# Altium footprint library Component_3.PcbLib: 2 footprints
Each footprint in its own frame and in the unit in brackets; x right, y up, seen from the top. Pads: shape width x height; smd on the part's side, far side on the other; paste and mask are expansions set on the pad; w line width, h text height; cw(c..) or ccw(c..) is an arc to the next point about the centre after c.
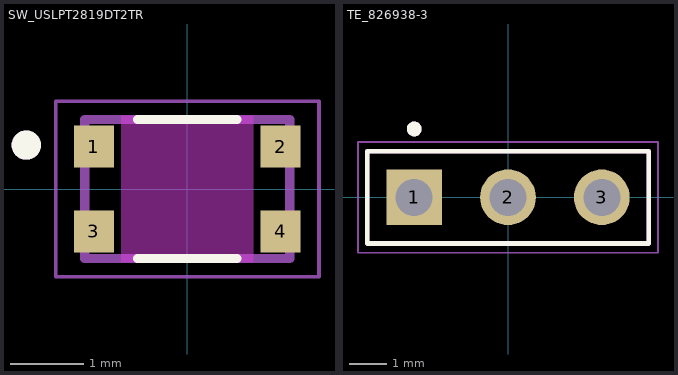
[diagram p0: the footprints below, top view; thin cyan lines are the x and y axes]

## SW_USLPT2819DT2TR [mm]
pads (4):
  rect 0.55x0.57 smd: 1(-1.275,0.58) 2(1.275,0.58) 3(-1.275,-0.58) 4(1.275,-0.58)
Top Overlay:
  circle w0.2: c-2.2,0.6 r0.1
  lines w0.127: -0.68,-0.95 0.68,-0.95 ; -0.68,0.95 0.68,0.95
Keep-Out Layer:
  region: 0.9,-1 -0.9,-1 -0.9,1 0.9,1
Mechanical 13:
  circle w0.2: c-2.2,0.6 r0.1
  lines w0.127: -1.4,-0.95 1.4,-0.95 1.4,0.95 -1.4,0.95 -1.4,-0.95
Mechanical 15:
  lines w0.05: -1.8,-1.2 1.8,-1.2 1.8,1.2 -1.8,1.2 -1.8,-1.2

## TE_826938-3 [mm]
pads (3):
  rect 1.508x1.508 hole 1: 1(-2.54,0)
  round 1.508 hole 1: 2(0,0) 3(2.54,0)
Top Overlay:
  circle w0.2: c-2.54,1.85 r0.1
  lines w0.127: -3.81,-1.25 -3.81,1.25 3.81,1.25 3.81,-1.25 -3.81,-1.25
Mechanical 13:
  circle w0.2: c-2.54,1.85 r0.1
  lines w0.127: -3.81,-1.25 -3.81,1.25 3.81,1.25 3.81,-1.25 -3.81,-1.25
Mechanical 15:
  lines w0.05: -4.06,-1.5 -4.06,1.5 4.06,1.5 4.06,-1.5 -4.06,-1.5